# Altium integrated library TI Interface Line Transceiver.IntLib: 631 symbols (part 16 of 17)
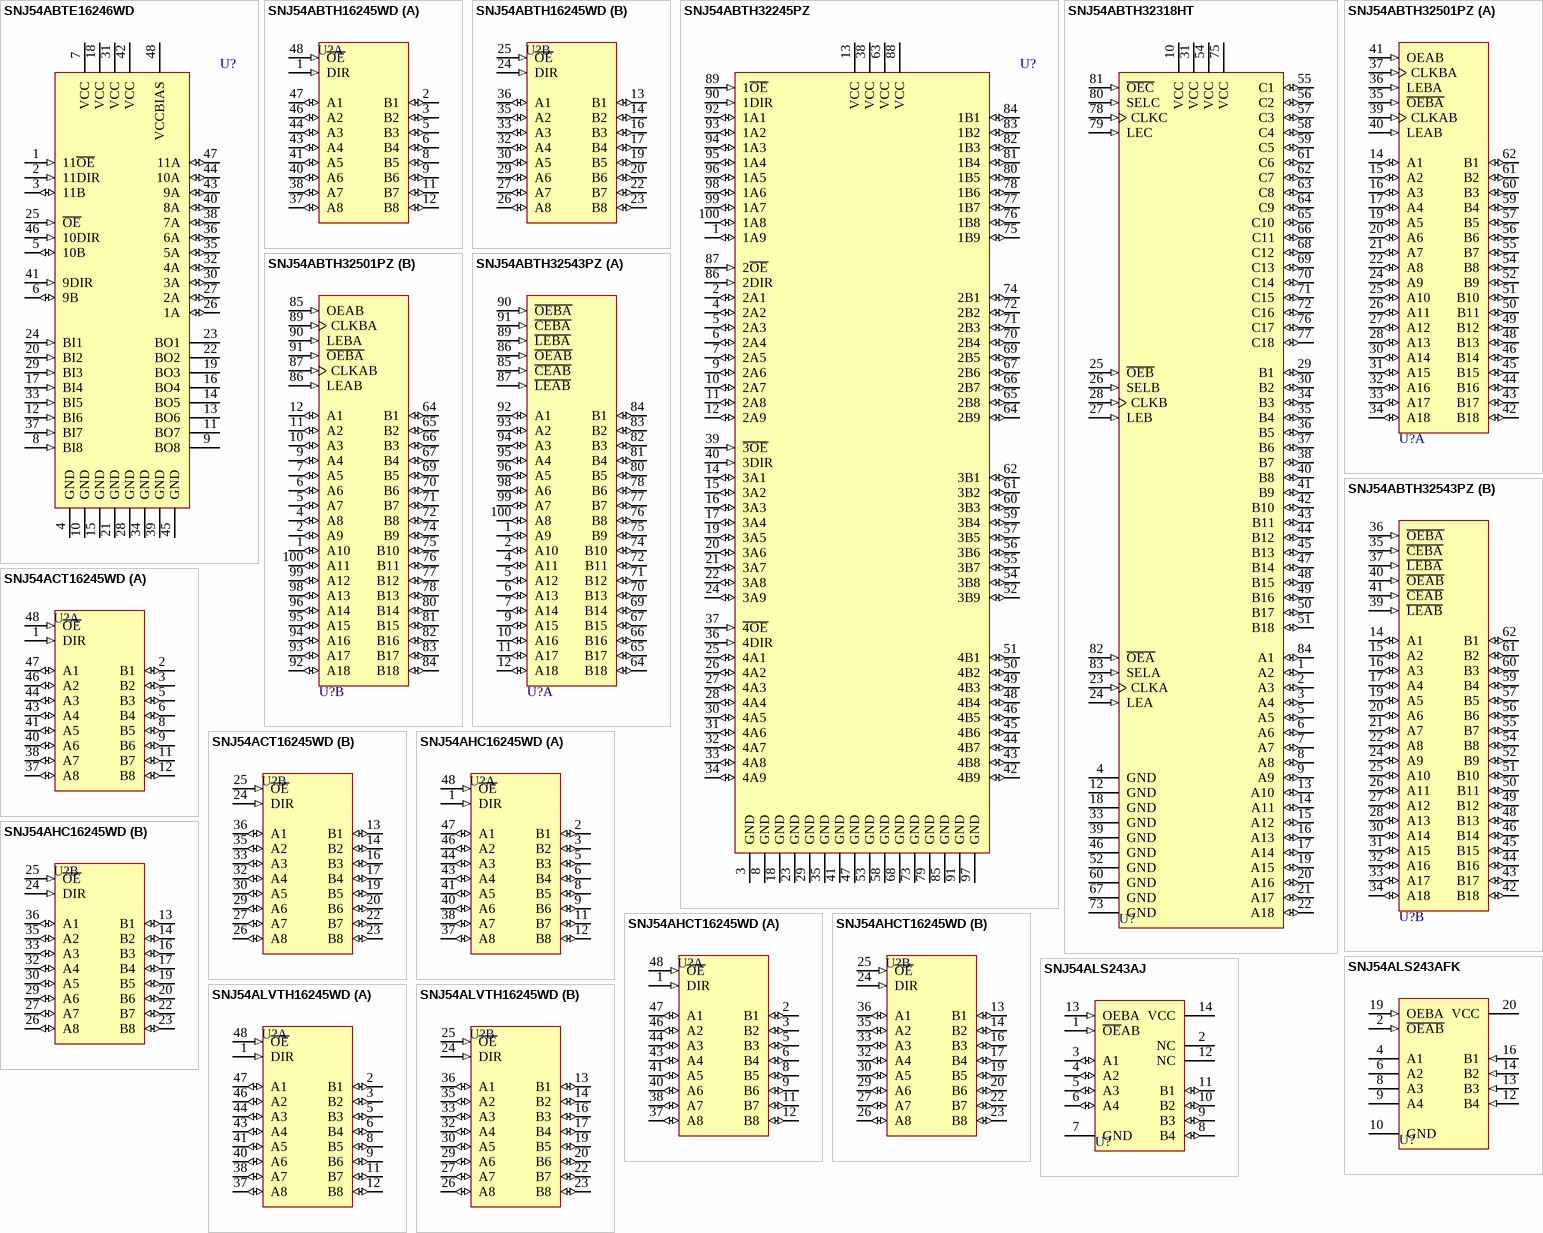
[diagram p54: symbols SNJ54ABTE16246WD to SNJ54ALVTH16245WD]

## SNJ54ABTH32318HT
designator U?
18-Bit Tri-Port Universal Bus Exchanger; Note: Pins 11,32,53,74 are not connected and not drawn; Published: 8-Jun-2000; LatestRevisionDate: 13-Apr-2006; LatestRevisionNote: IPC-7351 Footprint Added.; DatasheetVersion: May-1997; PackageVersion: Oct-1994; PackageReference: HT084; Publisher: Altium Limited; PackageDescription: 84-Pin Ceramic Quad Flat Pack 0.635 mm Pitch; ComponentLink1Description: Manufacturer Link; ComponentLink1URL: http://www.ti.com/
footprint HT084_N (CQFP, 84-Leads, Body 16.5x16.5mm; Pitch 0.635mm, Gullwing Leadform, IPC Medium Density)
footprint HT084_L (CQFP, 84-Leads, Body 16.5x16.5mm; Pitch 0.635mm, Gullwing Leadform, IPC High Density)
footprint HT084_M (CQFP, 84-Leads, Body 16.5x16.5mm; Pitch 0.635mm, Gullwing Leadform, IPC Low Density)
3D model SNJ54ABTH32318-HT084 (84-Pin Ceramic Quad Flat Pack 0.635 mm Pitch)
pins: 1 A2 (io), 2 A3 (io), 3 A4 (io), 4 GND (power), 5 A5 (io), 6 A6 (io), 7 A7 (io), 8 A8 (io), 9 A9 (io), 10 VCC (power), 12 GND (power), 13 A10 (io), 14 A11 (io), 15 A12 (io), 16 A13 (io), 17 A14 (io), 18 GND (power), 19 A15 (io), 20 A16 (io), 21 A17 (io), 22 A18 (io), 23 CLKA (in), 24 LEA (in), 25 ~{OEB} (in), 26 SELB (in), 27 LEB (in), 28 CLKB (in), 29 B1 (io), 30 B2 (io), 31 VCC (power), 33 GND (power), 34 B3 (io), 35 B4 (io), 36 B5 (io), 37 B6 (io), 38 B7 (io), 39 GND (power), 40 B8 (io), 41 B9 (io), 42 B10 (io), 43 B11 (io), 44 B12 (io), 45 B13 (io), 46 GND (power), 47 B14 (io), 48 B15 (io), 49 B16 (io), 50 B17 (io), 51 B18 (io), 52 GND (power), 54 VCC (power), 55 C1 (io), 56 C2 (io), 57 C3 (io), 58 C4 (io), 59 C5 (io), 60 GND (power), 61 C6 (io), 62 C7 (io), 63 C8 (io), 64 C9 (io), 65 C10 (io), 66 C11 (io), 67 GND (power), 68 C12 (io), 69 C13 (io), 70 C14 (io), 71 C15 (io), 72 C16 (io), 73 GND (power), 75 VCC (power), 76 C17 (io), 77 C18 (io), 78 CLKC (in), 79 LEC (in), 80 SELC (in), 81 ~{OEC} (in), 82 ~{OEA} (in), 83 SELA (in), 84 A1 (io)

## SNJ54ABTH32501PZ
designator U?
36-Bit Universal Bus Transceiver with 3-State Outputs; Published: 8-Jun-2000; LatestRevisionDate: 13-Apr-2006; LatestRevisionNote: IPC-7351 Footprint Added.; DatasheetVersion: May-1997; PackageVersion: Dec-1996; PackageReference: PZ100; Publisher: Altium Limited; PackageDescription: 100-Pin Thin Quad Flat Pack 0.5 mm Pitch; ComponentLink1Description: Manufacturer Link; ComponentLink1URL: http://www.ti.com/
footprint PZ100_N (Thin QFP, 100-Leads, Body 14x14mm, Pitch 0.5mm, IPC Medium Density)
footprint PZ100_L (Thin QFP, 100-Leads, Body 14x14mm, Pitch 0.5mm, IPC High Density)
footprint PZ100_M (Thin QFP, 100-Leads, Body 14x14mm, Pitch 0.5mm, IPC Low Density)
3D model SNJ54ABTH32501-PZ100 (100-Pin Thin Quad Flat Pack 0.5 mm Pitch)
pins on every part: 3 GND (power) hidden to GND, 8 GND (power) hidden to GND, 13 VCC (power) hidden to VCC, 18 GND (power) hidden to GND, 23 GND (power) hidden to GND, 29 GND (power) hidden to GND, 38 VCC (power) hidden to VCC, 47 GND (power) hidden to GND, 53 GND (power) hidden to GND, 58 GND (power) hidden to GND, 63 VCC (power) hidden to VCC, 68 GND (power) hidden to GND, 73 GND (power) hidden to GND, 79 GND (power) hidden to GND, 88 VCC (power) hidden to VCC, 97 GND (power) hidden to GND
part A pins: 14 A1 (io), 15 A2 (io), 16 A3 (io), 17 A4 (io), 19 A5 (io), 20 A6 (io), 21 A7 (io), 22 A8 (io), 24 A9 (io), 25 A10 (io), 26 A11 (io), 27 A12 (io), 28 A13 (io), 30 A14 (io), 31 A15 (io), 32 A16 (io), 33 A17 (io), 34 A18 (io), 35 ~{OEBA} (in), 36 LEBA (in), 37 CLKBA (in), 39 CLKAB (in), 40 LEAB (in), 41 OEAB (in), 42 B18 (io), 43 B17 (io), 44 B16 (io), 45 B15 (io), 46 B14 (io), 48 B13 (io), 49 B12 (io), 50 B11 (io), 51 B10 (io), 52 B9 (io), 54 B8 (io), 55 B7 (io), 56 B6 (io), 57 B5 (io), 59 B4 (io), 60 B3 (io), 61 B2 (io), 62 B1 (io)
part B pins: 1 A10 (io), 2 A9 (io), 4 A8 (io), 5 A7 (io), 6 A6 (io), 7 A5 (io), 9 A4 (io), 10 A3 (io), 11 A2 (io), 12 A1 (io), 64 B1 (io), 65 B2 (io), 66 B3 (io), 67 B4 (io), 69 B5 (io), 70 B6 (io), 71 B7 (io), 72 B8 (io), 74 B9 (io), 75 B10 (io), 76 B11 (io), 77 B12 (io), 78 B13 (io), 80 B14 (io), 81 B15 (io), 82 B16 (io), 83 B17 (io), 84 B18 (io), 85 OEAB (in), 86 LEAB (in), 87 CLKAB (in), 89 CLKBA (in), 90 LEBA (in), 91 ~{OEBA} (in), 92 A18 (io), 93 A17 (io), 94 A16 (io), 95 A15 (io), 96 A14 (io), 98 A13 (io), 99 A12 (io), 100 A11 (io)

## SNJ54ABTH32543PZ
designator U?
36-Bit Registered Bus Transceiver with 3-State Outputs; Published: 8-Jun-2000; LatestRevisionDate: 13-Apr-2006; LatestRevisionNote: IPC-7351 Footprint Added.; DatasheetVersion: May-1997; PackageVersion: Dec-1996; PackageReference: PZ100; Publisher: Altium Limited; PackageDescription: 100-Pin Thin Quad Flat Pack 0.5 mm Pitch; ComponentLink1Description: Manufacturer Link; ComponentLink1URL: http://www.ti.com/
footprint PZ100_N (Thin QFP, 100-Leads, Body 14x14mm, Pitch 0.5mm, IPC Medium Density)
footprint PZ100_L (Thin QFP, 100-Leads, Body 14x14mm, Pitch 0.5mm, IPC High Density)
footprint PZ100_M (Thin QFP, 100-Leads, Body 14x14mm, Pitch 0.5mm, IPC Low Density)
3D model SNJ54ABTH32543-PZ100 (100-Pin Thin Quad Flat Pack 0.5 mm Pitch)
pins on every part: 3 GND (power) hidden to GND, 8 GND (power) hidden to GND, 13 VCC (power) hidden to VCC, 18 GND (power) hidden to GND, 23 GND (power) hidden to GND, 29 GND (power) hidden to GND, 38 VCC (power) hidden to VCC, 47 GND (power) hidden to GND, 53 GND (power) hidden to GND, 58 GND (power) hidden to GND, 63 VCC (power) hidden to VCC, 68 GND (power) hidden to GND, 73 GND (power) hidden to GND, 79 GND (power) hidden to GND, 88 VCC (power) hidden to VCC, 97 GND (power) hidden to GND
part A pins: 1 A9 (io), 2 A10 (io), 4 A11 (io), 5 A12 (io), 6 A13 (io), 7 A14 (io), 9 A15 (io), 10 A16 (io), 11 A17 (io), 12 A18 (io), 64 B18 (io), 65 B17 (io), 66 B16 (io), 67 B15 (io), 69 B14 (io), 70 B13 (io), 71 B12 (io), 72 B11 (io), 74 B10 (io), 75 B9 (io), 76 B8 (io), 77 B7 (io), 78 B6 (io), 80 B5 (io), 81 B4 (io), 82 B3 (io), 83 B2 (io), 84 B1 (io), 85 ~{CEAB} (in), 86 ~{OEAB} (in), 87 ~{LEAB} (in), 89 ~{LEBA} (in), 90 ~{OEBA} (in), 91 ~{CEBA} (in), 92 A1 (io), 93 A2 (io), 94 A3 (io), 95 A4 (io), 96 A5 (io), 98 A6 (io), 99 A7 (io), 100 A8 (io)
part B pins: 14 A1 (io), 15 A2 (io), 16 A3 (io), 17 A4 (io), 19 A5 (io), 20 A6 (io), 21 A7 (io), 22 A8 (io), 24 A9 (io), 25 A10 (io), 26 A11 (io), 27 A12 (io), 28 A13 (io), 30 A14 (io), 31 A15 (io), 32 A16 (io), 33 A17 (io), 34 A18 (io), 35 ~{CEBA} (in), 36 ~{OEBA} (in), 37 ~{LEBA} (in), 39 ~{LEAB} (in), 40 ~{OEAB} (in), 41 ~{CEAB} (in), 42 B18 (io), 43 B17 (io), 44 B16 (io), 45 B15 (io), 46 B14 (io), 48 B13 (io), 49 B12 (io), 50 B11 (io), 51 B10 (io), 52 B9 (io), 54 B8 (io), 55 B7 (io), 56 B6 (io), 57 B5 (io), 59 B4 (io), 60 B3 (io), 61 B2 (io), 62 B1 (io)

## SNJ54ACT16245WD
designator U?
16-Bit Bus Transceiver with 3-State Outputs; Published: 8-Jun-2000; LatestRevisionDate: 04-Mar-2005; LatestRevisionNote: Stylized 3D Model Added.; DatasheetVersion: Apr-1996; PackageVersion: Jan-1998; PackageReference: WD048; Publisher: Altium Limited; PackageDescription: DFP; 48 Leads; Body 16.3 x 9.9 mm (LxW max); Pitch 0.635 mm; Code_JEDEC: MO-146-AA; ComponentLink1Description: Manufacturer Link; ComponentLink1URL: http://www.ti.com/
footprint WD048 (DFP; 48 Leads; Body 16.3 x 9.9 mm (LxW max); Pitch 0.635 mm)
3D model WD048 (DFP; 48 Leads; Body 16.3 x 9.9 mm (LxW max); Pitch 0.635 mm)
signal-integrity model SNJ54ACT16245WD
pins on every part: 4 GND (power) hidden to GND, 7 VCC (power) hidden to VCC, 10 GND (power) hidden to GND, 15 GND (power) hidden to GND, 18 VCC (power) hidden to VCC, 21 GND (power) hidden to GND, 28 GND (power) hidden to GND, 31 VCC (power) hidden to VCC, 34 GND (power) hidden to GND, 39 GND (power) hidden to GND, 42 VCC (power) hidden to VCC, 45 GND (power) hidden to GND
part A pins: 1 DIR (in), 2 B1 (io), 3 B2 (io), 5 B3 (io), 6 B4 (io), 8 B5 (io), 9 B6 (io), 11 B7 (io), 12 B8 (io), 37 A8 (io), 38 A7 (io), 40 A6 (io), 41 A5 (io), 43 A4 (io), 44 A3 (io), 46 A2 (io), 47 A1 (io), 48 ~{OE} (in)
part B pins: 13 B1 (io), 14 B2 (io), 16 B3 (io), 17 B4 (io), 19 B5 (io), 20 B6 (io), 22 B7 (io), 23 B8 (io), 24 DIR (in), 25 ~{OE} (in), 26 A8 (io), 27 A7 (io), 29 A6 (io), 30 A5 (io), 32 A4 (io), 33 A3 (io), 35 A2 (io), 36 A1 (io)

## SNJ54AHC16245WD
designator U?
16-Bit Bus Transceiver with 3-State Outputs; Published: 8-Jun-2000; LatestRevisionDate: 04-Mar-2005; LatestRevisionNote: Stylized 3D Model Added.; DatasheetVersion: Jun-1997; PackageVersion: Jan-1998; PackageReference: WD048; Publisher: Altium Limited; PackageDescription: DFP; 48 Leads; Body 16.3 x 9.9 mm (LxW max); Pitch 0.635 mm; Code_JEDEC: MO-146-AA; ComponentLink1Description: Manufacturer Link; ComponentLink1URL: http://www.ti.com/
footprint WD048 (DFP; 48 Leads; Body 16.3 x 9.9 mm (LxW max); Pitch 0.635 mm)
3D model WD048 (DFP; 48 Leads; Body 16.3 x 9.9 mm (LxW max); Pitch 0.635 mm)
signal-integrity model SNJ54AHC16245WD
pins on every part: 4 GND (power) hidden to GND, 7 VCC (power) hidden to VCC, 10 GND (power) hidden to GND, 15 GND (power) hidden to GND, 18 VCC (power) hidden to VCC, 21 GND (power) hidden to GND, 28 GND (power) hidden to GND, 31 VCC (power) hidden to VCC, 34 GND (power) hidden to GND, 39 GND (power) hidden to GND, 42 VCC (power) hidden to VCC, 45 GND (power) hidden to GND
part A pins: 1 DIR (in), 2 B1 (io), 3 B2 (io), 5 B3 (io), 6 B4 (io), 8 B5 (io), 9 B6 (io), 11 B7 (io), 12 B8 (io), 37 A8 (io), 38 A7 (io), 40 A6 (io), 41 A5 (io), 43 A4 (io), 44 A3 (io), 46 A2 (io), 47 A1 (io), 48 ~{OE} (in)
part B pins: 13 B1 (io), 14 B2 (io), 16 B3 (io), 17 B4 (io), 19 B5 (io), 20 B6 (io), 22 B7 (io), 23 B8 (io), 24 DIR (in), 25 ~{OE} (in), 26 A8 (io), 27 A7 (io), 29 A6 (io), 30 A5 (io), 32 A4 (io), 33 A3 (io), 35 A2 (io), 36 A1 (io)

## SNJ54AHCT16245WD
designator U?
16-Bit Bus Transceiver with 3-State Outputs; Published: 8-Jun-2000; LatestRevisionDate: 04-Mar-2005; LatestRevisionNote: Stylized 3D Model Added.; DatasheetVersion: Oct-1998; PackageVersion: Jan-1998; PackageReference: WD048; Publisher: Altium Limited; PackageDescription: DFP; 48 Leads; Body 16.3 x 9.9 mm (LxW max); Pitch 0.635 mm; Code_JEDEC: MO-146-AA; ComponentLink1Description: Manufacturer Link; ComponentLink1URL: http://www.ti.com/
footprint WD048 (DFP; 48 Leads; Body 16.3 x 9.9 mm (LxW max); Pitch 0.635 mm)
3D model WD048 (DFP; 48 Leads; Body 16.3 x 9.9 mm (LxW max); Pitch 0.635 mm)
signal-integrity model SNJ54AHCT16245WD
pins on every part: 4 GND (power) hidden to GND, 7 VCC (power) hidden to VCC, 10 GND (power) hidden to GND, 15 GND (power) hidden to GND, 18 VCC (power) hidden to VCC, 21 GND (power) hidden to GND, 28 GND (power) hidden to GND, 31 VCC (power) hidden to VCC, 34 GND (power) hidden to GND, 39 GND (power) hidden to GND, 42 VCC (power) hidden to VCC, 45 GND (power) hidden to GND
part A pins: 1 DIR (in), 2 B1 (io), 3 B2 (io), 5 B3 (io), 6 B4 (io), 8 B5 (io), 9 B6 (io), 11 B7 (io), 12 B8 (io), 37 A8 (io), 38 A7 (io), 40 A6 (io), 41 A5 (io), 43 A4 (io), 44 A3 (io), 46 A2 (io), 47 A1 (io), 48 ~{OE} (in)
part B pins: 13 B1 (io), 14 B2 (io), 16 B3 (io), 17 B4 (io), 19 B5 (io), 20 B6 (io), 22 B7 (io), 23 B8 (io), 24 DIR (in), 25 ~{OE} (in), 26 A8 (io), 27 A7 (io), 29 A6 (io), 30 A5 (io), 32 A4 (io), 33 A3 (io), 35 A2 (io), 36 A1 (io)

## SNJ54ALS243AFK
designator U?
Quadruple Bus Transceiver with 3-State Outputs; Note: Pins 1, 3, 5, 7, 11, 15, 17 and 18 are not connected; Published: 8-Jun-2000; LatestRevisionDate: 17-Jul-2002; LatestRevisionNote: Re-released for DXP Platform.; DatasheetVersion: Dec-1994; PackageVersion: 1998; PackageReference: FK020; Publisher: Altium Limited; PackageDescription: Leadless Chip Carrier; 20 Terminals; Body 8.9 x 8.9 mm; ComponentLink1Description: Manufacturer Link; ComponentLink1URL: http://www.ti.com/; ComponentLink2Description: Datasheet; ComponentLink2URL: http://www-s.ti.com/sc/ds/sn54als243a.pdf
footprint FK020 (Leadless Chip Carrier; 20 Terminals; Body 8.9 x 8.9 mm)
signal-integrity model SNJ54ALS243AFK
pins: 2 ~{OEAB} (in), 4 A1 (hiz), 6 A2 (hiz), 8 A3 (hiz), 9 A4 (hiz), 10 GND (power), 12 B4 (in), 13 B3 (in), 14 B2 (in), 16 B1 (in), 19 OEBA (in), 20 VCC (power)

## SNJ54ALS243AJ
designator U?
Quadruple Bus Transceiver with 3-State Outputs; Note: Pins 2 and 12 are not connected; Published: 8-Jun-2000; LatestRevisionDate: 04-Mar-2005; LatestRevisionNote: Stylized 3D Model Added.; DatasheetVersion: Dec-1994; PackageVersion: Jun-1999; PackageReference: J014; Publisher: Altium Limited; PackageDescription: DIP; 14 Leads; Row Spacing 7.62 mm; Pitch 2.54 mm; ComponentLink1Description: Manufacturer Link; ComponentLink1URL: http://www.ti.com/; ComponentLink2Description: Datasheet; ComponentLink2URL: http://www-s.ti.com/sc/ds/sn54als243a.pdf
footprint J014 (DIP; 14 Leads; Row Spacing 7.62 mm; Pitch 2.54 mm)
3D model J014 (DIP; 14 Leads; Row Spacing 7.62 mm; Pitch 2.54 mm)
signal-integrity model SNJ54ALS243AJ
pins: 1 ~{OE}AB (in), 2 NC, 3 A1 (io), 4 A2 (io), 5 A3 (io), 6 A4 (io), 7 GND (power), 8 B4 (io), 9 B3 (io), 10 B2 (io), 11 B1 (io), 12 NC, 13 OEBA (in), 14 VCC (power)

## SNJ54ALVTH16245WD
designator U?
2.5-V/3.3-V 16-Bit Bus Transceiver with 3-State Outputs; Published: 8-Jun-2000; LatestRevisionDate: 04-Mar-2005; LatestRevisionNote: Stylized 3D Model Added.; DatasheetVersion: Jan-1998; PackageVersion: Jan-1998; PackageReference: WD048; Publisher: Altium Limited; PackageDescription: DFP; 48 Leads; Body 16.3 x 9.9 mm (LxW max); Pitch 0.635 mm; Code_JEDEC: MO-146-AA; ComponentLink1Description: Manufacturer Link; ComponentLink1URL: http://www.ti.com/
footprint WD048 (DFP; 48 Leads; Body 16.3 x 9.9 mm (LxW max); Pitch 0.635 mm)
3D model WD048 (DFP; 48 Leads; Body 16.3 x 9.9 mm (LxW max); Pitch 0.635 mm)
pins on every part: 4 GND (power) hidden to GND, 7 VCC (power) hidden to VCC, 10 GND (power) hidden to GND, 15 GND (power) hidden to GND, 18 VCC (power) hidden to VCC, 21 GND (power) hidden to GND, 28 GND (power) hidden to GND, 31 VCC (power) hidden to VCC, 34 GND (power) hidden to GND, 39 GND (power) hidden to GND, 42 VCC (power) hidden to VCC, 45 GND (power) hidden to GND
part A pins: 1 DIR (in), 2 B1 (io), 3 B2 (io), 5 B3 (io), 6 B4 (io), 8 B5 (io), 9 B6 (io), 11 B7 (io), 12 B8 (io), 37 A8 (io), 38 A7 (io), 40 A6 (io), 41 A5 (io), 43 A4 (io), 44 A3 (io), 46 A2 (io), 47 A1 (io), 48 ~{OE} (in)
part B pins: 13 B1 (io), 14 B2 (io), 16 B3 (io), 17 B4 (io), 19 B5 (io), 20 B6 (io), 22 B7 (io), 23 B8 (io), 24 DIR (in), 25 ~{OE} (in), 26 A8 (io), 27 A7 (io), 29 A6 (io), 30 A5 (io), 32 A4 (io), 33 A3 (io), 35 A2 (io), 36 A1 (io)

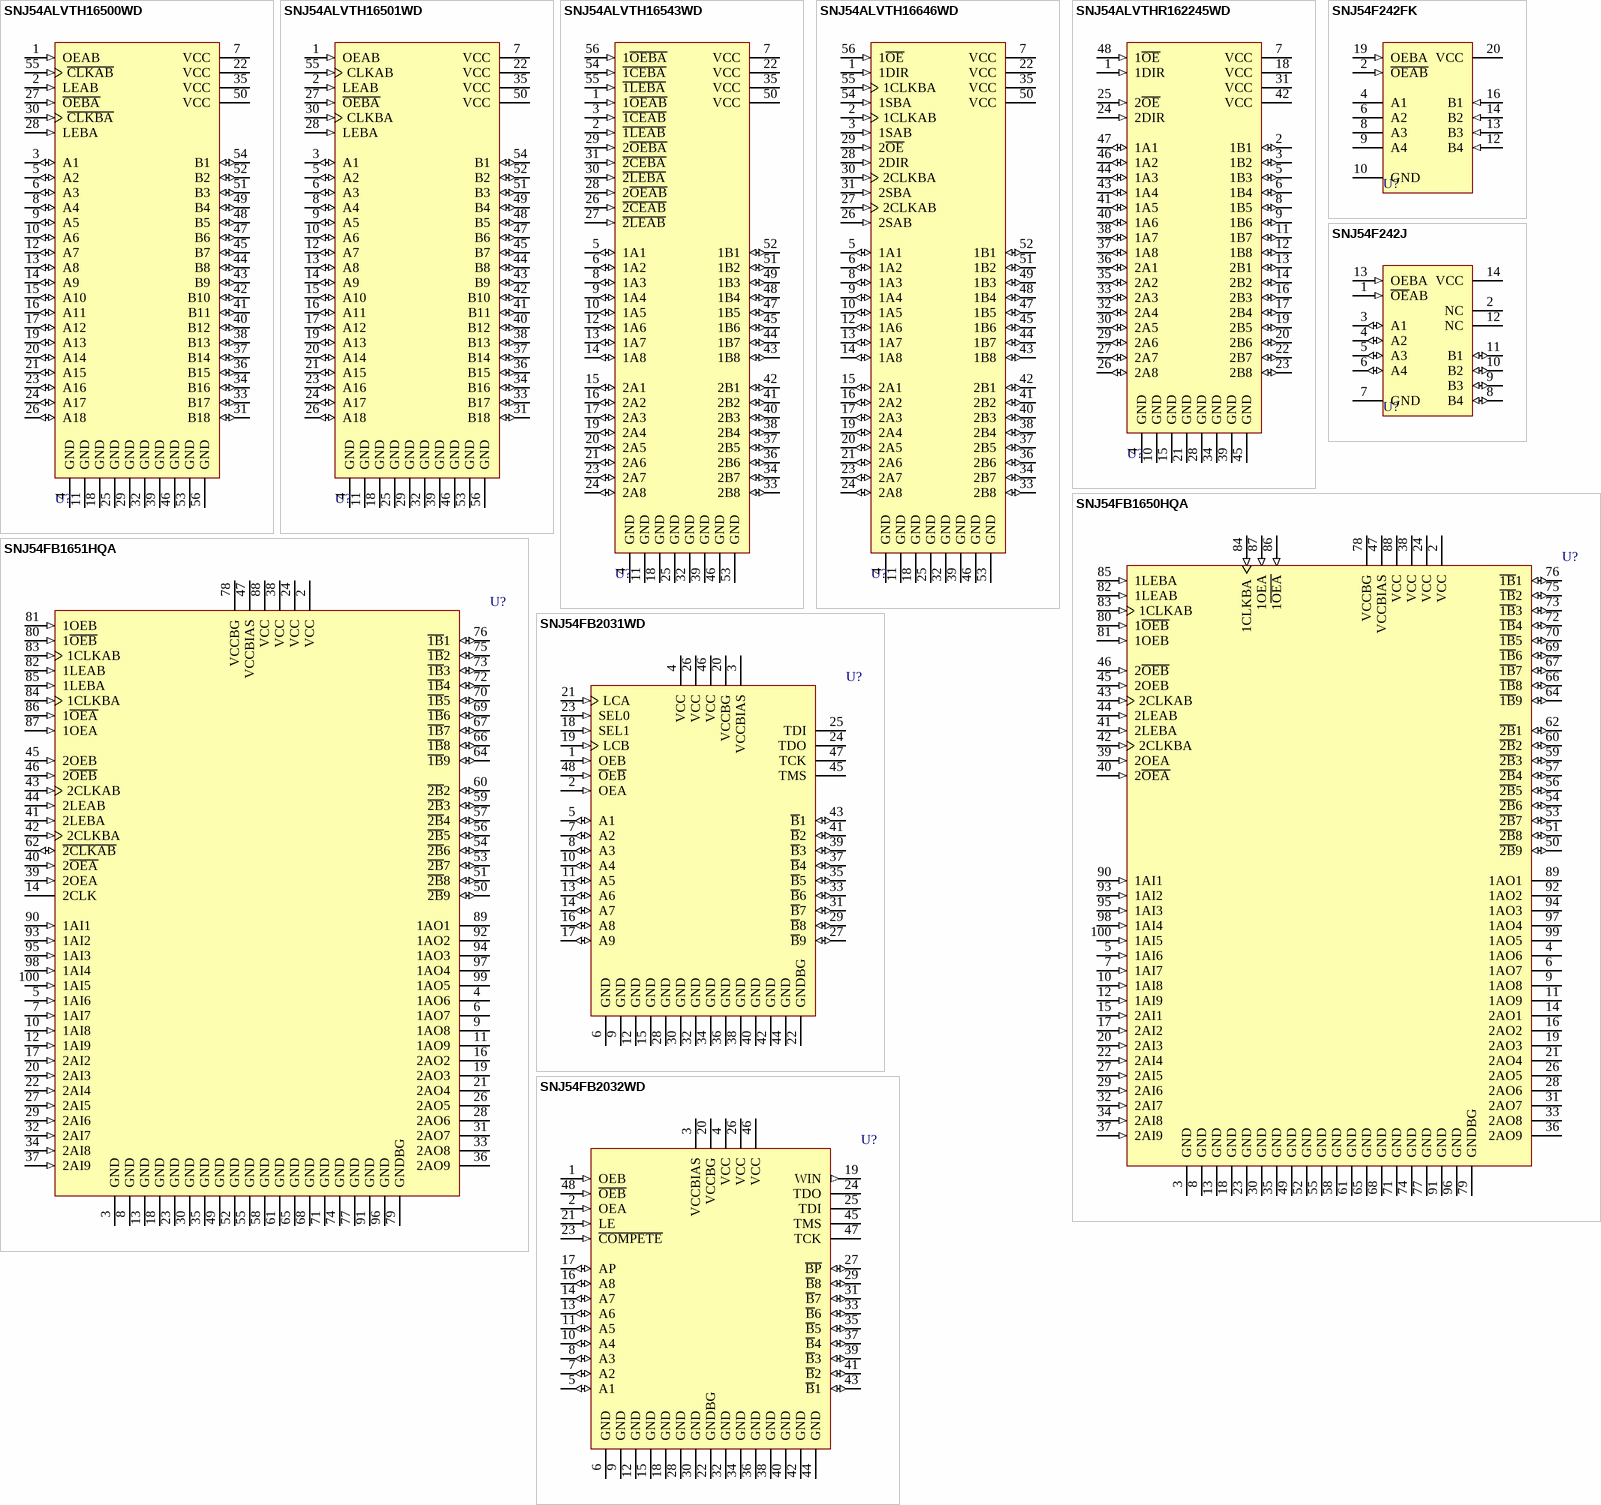
[diagram p35: symbols SNJ54ALVTH16500WD to SNJ54FB2032WD]

## SNJ54ALVTH16500WD
designator U?
2.5-V/3.3-V 18-Bit Universal Bus Transceiver with 3-State Outputs; Published: 8-Jun-2000; LatestRevisionDate: 04-Mar-2005; LatestRevisionNote: Stylized 3D Model Added.; DatasheetVersion: Jul-1996; PackageVersion: Jan-1998; PackageReference: WD056; Publisher: Altium Limited; PackageDescription: DFP; 56 Leads; Body 18.8 x 9.9 mm (LxW max); Pitch 0.635 mm; Code_JEDEC: MO-146-AB; ComponentLink1Description: Manufacturer Link; ComponentLink1URL: http://www.ti.com/
footprint WD056 (DFP; 56 Leads; Body 18.8 x 9.9 mm (LxW max); Pitch 0.635 mm)
3D model WD056 (DFP; 56 Leads; Body 18.8 x 9.9 mm (LxW max); Pitch 0.635 mm)
pins: 1 OEAB (in), 2 LEAB (in), 3 A1 (io), 4 GND (power), 5 A2 (io), 6 A3 (io), 7 VCC (power), 8 A4 (io), 9 A5 (io), 10 A6 (io), 11 GND (power), 12 A7 (io), 13 A8 (io), 14 A9 (io), 15 A10 (io), 16 A11 (io), 17 A12 (io), 18 GND (power), 19 A13 (io), 20 A14 (io), 21 A15 (io), 22 VCC (power), 23 A16 (io), 24 A17 (io), 25 GND (power), 26 A18 (io), 27 ~{OEBA} (in), 28 LEBA (in), 29 GND (power), 30 ~{CLKBA} (in), 31 B18 (io), 32 GND (power), 33 B17 (io), 34 B16 (io), 35 VCC (power), 36 B15 (io), 37 B14 (io), 38 B13 (io), 39 GND (power), 40 B12 (io), 41 B11 (io), 42 B10 (io), 43 B9 (io), 44 B8 (io), 45 B7 (io), 46 GND (power), 47 B6 (io), 48 B5 (io), 49 B4 (io), 50 VCC (power), 51 B3 (io), 52 B2 (io), 53 GND (power), 54 B1 (io), 55 ~{CLKAB} (in), 56 GND (power)

## SNJ54ALVTH16501WD
designator U?
2.5-V/3.3-V 18-Bit Universal Bus Transceiver with 3-State Outputs; Published: 8-Jun-2000; LatestRevisionDate: 04-Mar-2005; LatestRevisionNote: Stylized 3D Model Added.; DatasheetVersion: Jan-1998; PackageVersion: Jan-1998; PackageReference: WD056; Publisher: Altium Limited; PackageDescription: DFP; 56 Leads; Body 18.8 x 9.9 mm (LxW max); Pitch 0.635 mm; Code_JEDEC: MO-146-AB; ComponentLink1Description: Manufacturer Link; ComponentLink1URL: http://www.ti.com/
footprint WD056 (DFP; 56 Leads; Body 18.8 x 9.9 mm (LxW max); Pitch 0.635 mm)
3D model WD056 (DFP; 56 Leads; Body 18.8 x 9.9 mm (LxW max); Pitch 0.635 mm)
pins: 1 OEAB (in), 2 LEAB (in), 3 A1 (io), 4 GND (power), 5 A2 (io), 6 A3 (io), 7 VCC (power), 8 A4 (io), 9 A5 (io), 10 A6 (io), 11 GND (power), 12 A7 (io), 13 A8 (io), 14 A9 (io), 15 A10 (io), 16 A11 (io), 17 A12 (io), 18 GND (power), 19 A13 (io), 20 A14 (io), 21 A15 (io), 22 VCC (power), 23 A16 (io), 24 A17 (io), 25 GND (power), 26 A18 (io), 27 ~{OEBA} (in), 28 LEBA (in), 29 GND (power), 30 CLKBA (in), 31 B18 (io), 32 GND (power), 33 B17 (io), 34 B16 (io), 35 VCC (power), 36 B15 (io), 37 B14 (io), 38 B13 (io), 39 GND (power), 40 B12 (io), 41 B11 (io), 42 B10 (io), 43 B9 (io), 44 B8 (io), 45 B7 (io), 46 GND (power), 47 B6 (io), 48 B5 (io), 49 B4 (io), 50 VCC (power), 51 B3 (io), 52 B2 (io), 53 GND (power), 54 B1 (io), 55 CLKAB (in), 56 GND (power)

## SNJ54ALVTH16543WD
designator U?
2.5-V/3.3-V 16-Bit Registered Transceiver with 3-State Outputs; Published: 8-Jun-2000; LatestRevisionDate: 04-Mar-2005; LatestRevisionNote: Stylized 3D Model Added.; DatasheetVersion: Jul-1996; PackageVersion: Jan-1998; PackageReference: WD056; Publisher: Altium Limited; PackageDescription: DFP; 56 Leads; Body 18.8 x 9.9 mm (LxW max); Pitch 0.635 mm; Code_JEDEC: MO-146-AB; ComponentLink1Description: Manufacturer Link; ComponentLink1URL: http://www.ti.com/
footprint WD056 (DFP; 56 Leads; Body 18.8 x 9.9 mm (LxW max); Pitch 0.635 mm)
3D model WD056 (DFP; 56 Leads; Body 18.8 x 9.9 mm (LxW max); Pitch 0.635 mm)
pins: 1 1~{OEAB} (in), 2 ~{1LEAB} (in), 3 ~{1CEAB} (in), 4 GND (power), 5 1A1 (io), 6 1A2 (io), 7 VCC (power), 8 1A3 (io), 9 1A4 (io), 10 1A5 (io), 11 GND (power), 12 1A6 (io), 13 1A7 (io), 14 1A8 (io), 15 2A1 (io), 16 2A2 (io), 17 2A3 (io), 18 GND (power), 19 2A4 (io), 20 2A5 (io), 21 2A6 (io), 22 VCC (power), 23 2A7 (io), 24 2A8 (io), 25 GND (power), 26 ~{2CEAB} (in), 27 ~{2LEAB} (in), 28 2~{OEAB} (in), 29 2~{OEBA} (in), 30 ~{2LEBA} (in), 31 ~{2CEBA} (in), 32 GND (power), 33 2B8 (io), 34 2B7 (io), 35 VCC (power), 36 2B6 (io), 37 2B5 (io), 38 2B4 (io), 39 GND (power), 40 2B3 (io), 41 2B2 (io), 42 2B1 (io), 43 1B8 (io), 44 1B7 (io), 45 1B6 (io), 46 GND (power), 47 1B5 (io), 48 1B4 (io), 49 1B3 (io), 50 VCC (power), 51 1B2 (io), 52 1B1 (io), 53 GND (power), 54 ~{1CEBA} (in), 55 ~{1LEBA} (in), 56 1~{OEBA} (in)

## SNJ54ALVTH16646WD
designator U?
2.5-V/3.3-V 16-Bit Bus Transceiver with 3-State Outputs; Published: 8-Jun-2000; LatestRevisionDate: 04-Mar-2005; LatestRevisionNote: Stylized 3D Model Added.; DatasheetVersion: Jul-1996; PackageVersion: Jan-1998; PackageReference: WD056; Publisher: Altium Limited; PackageDescription: DFP; 56 Leads; Body 18.8 x 9.9 mm (LxW max); Pitch 0.635 mm; Code_JEDEC: MO-146-AB; ComponentLink1Description: Manufacturer Link; ComponentLink1URL: http://www.ti.com/
footprint WD056 (DFP; 56 Leads; Body 18.8 x 9.9 mm (LxW max); Pitch 0.635 mm)
3D model WD056 (DFP; 56 Leads; Body 18.8 x 9.9 mm (LxW max); Pitch 0.635 mm)
pins: 1 1DIR (in), 2 1CLKAB (in), 3 1SAB (in), 4 GND (power), 5 1A1 (io), 6 1A2 (io), 7 VCC (power), 8 1A3 (io), 9 1A4 (io), 10 1A5 (io), 11 GND (power), 12 1A6 (io), 13 1A7 (io), 14 1A8 (io), 15 2A1 (io), 16 2A2 (io), 17 2A3 (io), 18 GND (power), 19 2A4 (io), 20 2A5 (io), 21 2A6 (io), 22 VCC (power), 23 2A7 (io), 24 2A8 (io), 25 GND (power), 26 2SAB (in), 27 2CLKAB (in), 28 2DIR (in), 29 2~{OE} (in), 30 2CLKBA (in), 31 2SBA (in), 32 GND (power), 33 2B8 (io), 34 2B7 (io), 35 VCC (power), 36 2B6 (io), 37 2B5 (io), 38 2B4 (io), 39 GND (power), 40 2B3 (io), 41 2B2 (io), 42 2B1 (io), 43 1B8 (io), 44 1B7 (io), 45 1B6 (io), 46 GND (power), 47 1B5 (io), 48 1B4 (io), 49 1B3 (io), 50 VCC (power), 51 1B2 (io), 52 1B1 (io), 53 GND (power), 54 1SBA (in), 55 1CLKBA (in), 56 1~{OE} (in)

## SNJ54ALVTHR162245WD
designator U?
2.5-V/3.3-V 16-Bit Bus Transceiver with 3-State Outputs; Published: 8-Jun-2000; LatestRevisionDate: 04-Mar-2005; LatestRevisionNote: Stylized 3D Model Added.; DatasheetVersion: Jul-1996; PackageVersion: Jan-1998; PackageReference: WD048; Publisher: Altium Limited; PackageDescription: DFP; 48 Leads; Body 16.3 x 9.9 mm (LxW max); Pitch 0.635 mm; Code_JEDEC: MO-146-AA; ComponentLink1Description: Manufacturer Link; ComponentLink1URL: http://www.ti.com/
footprint WD048 (DFP; 48 Leads; Body 16.3 x 9.9 mm (LxW max); Pitch 0.635 mm)
3D model WD048 (DFP; 48 Leads; Body 16.3 x 9.9 mm (LxW max); Pitch 0.635 mm)
pins: 1 1DIR (in), 2 1B1 (io), 3 1B2 (io), 4 GND (power), 5 1B3 (io), 6 1B4 (io), 7 VCC (power), 8 1B5 (io), 9 1B6 (io), 10 GND (power), 11 1B7 (io), 12 1B8 (io), 13 2B1 (io), 14 2B2 (io), 15 GND (power), 16 2B3 (io), 17 2B4 (io), 18 VCC (power), 19 2B5 (io), 20 2B6 (io), 21 GND (power), 22 2B7 (io), 23 2B8 (io), 24 2DIR (in), 25 2~{OE} (in), 26 2A8 (io), 27 2A7 (io), 28 GND (power), 29 2A6 (io), 30 2A5 (io), 31 VCC (power), 32 2A4 (io), 33 2A3 (io), 34 GND (power), 35 2A2 (io), 36 2A1 (io), 37 1A8 (io), 38 1A7 (io), 39 GND (power), 40 1A6 (io), 41 1A5 (io), 42 VCC (power), 43 1A4 (io), 44 1A3 (io), 45 GND (power), 46 1A2 (io), 47 1A1 (io), 48 1~{OE} (in)

## SNJ54F242FK
designator U?
Quadruple Bus Transceiver with 3-State Outputs; Note: Pins 1, 3, 5, 7, 11, 15, 17 and 18 are NC.; Published: 8-Jun-2000; LatestRevisionDate: 17-Jul-2002; LatestRevisionNote: Re-released for DXP Platform.; DatasheetVersion: Oct-1993; PackageVersion: 1998; PackageReference: FK020; Publisher: Altium Limited; PackageDescription: Leadless Chip Carrier; 20 Terminals; Body 8.9 x 8.9 mm; ComponentLink1Description: Manufacturer Link; ComponentLink1URL: http://www.ti.com/
footprint FK020 (Leadless Chip Carrier; 20 Terminals; Body 8.9 x 8.9 mm)
simulation model SN74F242 (SIMCODE)
signal-integrity model SNJ54F242FK
pins: 2 ~{OEAB} (in), 4 A1 (hiz), 6 A2 (hiz), 8 A3 (hiz), 9 A4 (hiz), 10 GND (power), 12 B4 (in), 13 B3 (in), 14 B2 (in), 16 B1 (in), 19 OEBA (in), 20 VCC (power)

## SNJ54F242J
designator U?
Quadruple Bus Transceiver with 3-State Outputs; Note: Pins 2 and 12 are NC.; Published: 8-Jun-2000; LatestRevisionDate: 04-Mar-2005; LatestRevisionNote: Stylized 3D Model Added.; DatasheetVersion: Oct-1993; PackageVersion: Jun-1999; PackageReference: J014; Publisher: Altium Limited; PackageDescription: DIP; 14 Leads; Row Spacing 7.62 mm; Pitch 2.54 mm; ComponentLink1Description: Manufacturer Link; ComponentLink1URL: http://www.ti.com/
footprint J014 (DIP; 14 Leads; Row Spacing 7.62 mm; Pitch 2.54 mm)
3D model J014 (DIP; 14 Leads; Row Spacing 7.62 mm; Pitch 2.54 mm)
simulation model SN74F242 (SIMCODE)
signal-integrity model SNJ54F242J
pins: 1 ~{OE}AB (in), 2 NC, 3 A1 (io), 4 A2 (io), 5 A3 (io), 6 A4 (io), 7 GND (power), 8 B4 (io), 9 B3 (io), 10 B2 (io), 11 B1 (io), 12 NC, 13 OEBA (in), 14 VCC (power)

## SNJ54FB1650HQA
designator U?
18-Bit TTL/BTL Universal Storage Transceiver; Note: Pins 1, 48, 63 and 25 are not connected; Published: 8-Jun-2000; LatestRevisionDate: 13-Apr-2006; LatestRevisionNote: IPC-7351 Footprint Added.; DatasheetVersion: Jun-1997; PackageVersion: Oct-1994; PackageReference: HQA100C; Publisher: Altium Limited; PackageDescription: 100-Pin Ceramic Quad Flat Pack 0.635 mm Pitch; ComponentLink1Description: Manufacturer Link; ComponentLink1URL: http://www.ti.com/
footprint HQA100C_N (CQFP, 100-Leads, Body 17x17mm; Pitch 0.635mm, Gullwing Leadform, IPC Medium Density)
footprint HQA100C_L (CQFP, 100-Leads, Body 17x17mm; Pitch 0.635mm, Gullwing Leadform, IPC High Density)
footprint HQA100C_M (CQFP, 100-Leads, Body 17x17mm; Pitch 0.635mm, Gullwing Leadform, IPC Low Density)
3D model SNJ54FB1650-HQA100 (100-Pin Ceramic Quad Flat Pack 0.635 mm Pitch)
pins: 2 VCC (power), 3 GND (power), 4 1AO6 (hiz), 5 1AI6 (in), 6 1AO7 (hiz), 7 1AI7 (in), 8 GND (power), 9 1AO8 (hiz), 10 1AI8 (in), 11 1AO9 (hiz), 12 1AI9 (in), 13 GND (power), 14 2AO1 (hiz), 15 2AI1 (in), 16 2AO2 (hiz), 17 2AI2 (in), 18 GND (power), 19 2AO3 (hiz), 20 2AI3 (in), 21 2AO4 (hiz), 22 2AI4 (in), 23 GND (power), 24 VCC (power), 26 2AO5 (hiz), 27 2AI5 (in), 28 2AO6 (hiz), 29 2AI6 (in), 30 GND (power), 31 2AO7 (hiz), 32 2AI7 (in), 33 2AO8 (hiz), 34 2AI8 (in), 35 GND (power), 36 2AO9 (hiz), 37 2AI9 (in), 38 VCC (power), 39 2OEA (in), 40 2~{OEA} (in), 41 2LEBA (in), 42 2CLKBA (in), 43 2CLKAB (in), 44 2LEAB (in), 45 2OEB (in), 46 2~{OEB} (in), 47 VCCBIAS (power), 49 GND (power), 50 ~{2B}9 (io), 51 ~{2B}8 (io), 52 GND (power), 53 ~{2B}7 (io), 54 ~{2B}6 (io), 55 GND (power), 56 ~{2B}5 (io), 57 ~{2B}4 (io), 58 GND (power), 59 ~{2B}3 (io), 60 ~{2B}2 (io), 61 GND (power), 62 ~{2B}1 (io), 64 ~{1B}9 (io), 65 GND (power), 66 ~{1B}8 (io), 67 ~{1B}7 (io), 68 GND (power), 69 ~{1B}6 (io), 70 ~{1B}5 (io), 71 GND (power), 72 ~{1B}4 (io), 73 ~{1B}3 (io), 74 GND (power), 75 ~{1B}2 (io), 76 ~{1B}1 (io), 77 GND (power), 78 VCCBG (power), 79 GNDBG (power), 80 1~{OEB} (in), 81 1OEB (in), 82 1LEAB (in), 83 1CLKAB (in), 84 1CLKBA (in), 85 1LEBA (in), 86 1~{OEA} (in), 87 1OEA (in), 88 VCC (power), 89 1AO1 (hiz), 90 1AI1 (in), 91 GND (power), 92 1AO2 (hiz), 93 1AI2 (in), 94 1AO3 (hiz), 95 1AI3 (in), 96 GND (power), 97 1AO4 (hiz), 98 1AI4 (in), 99 1AO5 (hiz), 100 1AI5 (in)

## SNJ54FB1651HQA
designator U?
17-Bit TTL/BTL Universal Storage Transceiver with Buffered Clock Lines; Note: Pins 1, 15, 25, 48 and 63 are not connected; Published: 8-Jun-2000; LatestRevisionDate: 13-Apr-2006; LatestRevisionNote: IPC-7351 Footprint Added.; DatasheetVersion: Jun-1997; PackageVersion: Oct-1994; PackageReference: HQA100C; Publisher: Altium Limited; PackageDescription: 100-Pin Ceramic Quad Flat Pack 0.635 mm Pitch; ComponentLink1Description: Manufacturer Link; ComponentLink1URL: http://www.ti.com/
footprint HQA100C_N (CQFP, 100-Leads, Body 17x17mm; Pitch 0.635mm, Gullwing Leadform, IPC Medium Density)
footprint HQA100C_L (CQFP, 100-Leads, Body 17x17mm; Pitch 0.635mm, Gullwing Leadform, IPC High Density)
footprint HQA100C_M (CQFP, 100-Leads, Body 17x17mm; Pitch 0.635mm, Gullwing Leadform, IPC Low Density)
3D model SNJ54FB1651-HQA100 (100-Pin Ceramic Quad Flat Pack 0.635 mm Pitch)
pins: 2 VCC (power), 3 GND (power), 4 1AO6 (hiz), 5 1AI6 (in), 6 1AO7 (hiz), 7 1AI7 (in), 8 GND (power), 9 1AO8 (hiz), 10 1AI8 (in), 11 1AO9 (hiz), 12 1AI9 (in), 13 GND (power), 14 2CLK (hiz), 16 2AO2 (hiz), 17 2AI2 (in), 18 GND (power), 19 2AO3 (hiz), 20 2AI3 (in), 21 2AO4 (hiz), 22 2AI4 (in), 23 GND (power), 24 VCC (power), 26 2AO5 (hiz), 27 2AI5 (in), 28 2AO6 (hiz), 29 2AI6 (in), 30 GND (power), 31 2AO7 (hiz), 32 2AI7 (in), 33 2AO8 (hiz), 34 2AI8 (in), 35 GND (power), 36 2AO9 (hiz), 37 2AI9 (in), 38 VCC (power), 39 2OEA (in), 40 2~{OEA} (in), 41 2LEBA (in), 42 2CLKBA (in), 43 2CLKAB (in), 44 2LEAB (in), 45 2OEB (in), 46 2~{OEB} (in), 47 VCCBIAS (power), 49 GND (power), 50 ~{2B}9 (io), 51 ~{2B}8 (io), 52 GND (power), 53 ~{2B}7 (io), 54 ~{2B}6 (io), 55 GND (power), 56 ~{2B}5 (io), 57 ~{2B}4 (io), 58 GND (power), 59 ~{2B}3 (io), 60 ~{2B}2 (io), 61 GND (power), 62 ~{2CLKAB} (io), 64 ~{1B}9 (io), 65 GND (power), 66 ~{1B}8 (io), 67 ~{1B}7 (io), 68 GND (power), 69 ~{1B}6 (io), 70 ~{1B}5 (io), 71 GND (power), 72 ~{1B}4 (io), 73 ~{1B}3 (io), 74 GND (power), 75 ~{1B}2 (io), 76 ~{1B}1 (io), 77 GND (power), 78 VCCBG (power), 79 GNDBG (power), 80 1~{OEB} (in), 81 1OEB (in), 82 1LEAB (in), 83 1CLKAB (in), 84 1CLKBA (in), 85 1LEBA (in), 86 1~{OEA} (in), 87 1OEA (in), 88 VCC (power), 89 1AO1 (hiz), 90 1AI1 (in), 91 GND (power), 92 1AO2 (hiz), 93 1AI2 (in), 94 1AO3 (hiz), 95 1AI3 (in), 96 GND (power), 97 1AO4 (hiz), 98 1AI4 (in), 99 1AO5 (hiz), 100 1AI5 (in)

## SNJ54FB2031WD
designator U?
9-Bit TTL/BTL Address/Data Transceiver; ComponentAvailability: Obsolete; Published: 8-Jun-2000; LatestRevisionDate: 04-Mar-2005; LatestRevisionNote: Stylized 3D Model Added.; DatasheetVersion: Jun-1997; PackageVersion: Jan-1998; PackageReference: WD048; Publisher: Altium Limited; PackageDescription: DFP; 48 Leads; Body 16.3 x 9.9 mm (LxW max); Pitch 0.635 mm; Code_JEDEC: MO-146-AA; ComponentLink1Description: Manufacturer Link; ComponentLink1URL: http://www.ti.com/; ComponentLink2Description: Discontinuation Notice; ComponentLink2URL: http://focus.ti.com/pdfs/mltry/obsolete.pdf
footprint WD048 (DFP; 48 Leads; Body 16.3 x 9.9 mm (LxW max); Pitch 0.635 mm)
3D model WD048 (DFP; 48 Leads; Body 16.3 x 9.9 mm (LxW max); Pitch 0.635 mm)
pins: 1 OEB (in), 2 OEA (in), 3 VCCBIAS (power), 4 VCC (power), 5 A1 (io), 6 GND (power), 7 A2 (io), 8 A3 (io), 9 GND (power), 10 A4 (io), 11 A5 (io), 12 GND (power), 13 A6 (io), 14 A7 (io), 15 GND (power), 16 A8 (io), 17 A9 (io), 18 SEL1 (in), 19 LCB (in), 20 VCCBG (power), 21 LCA (in), 22 GNDBG (power), 23 SEL0 (in), 24 TDO, 25 TDI, 26 VCC (power), 27 ~{B}9 (io), 28 GND (power), 29 ~{B}8 (io), 30 GND (power), 31 ~{B}7 (io), 32 GND (power), 33 ~{B}6 (io), 34 GND (power), 35 ~{B}5 (io), 36 GND (power), 37 ~{B}4 (io), 38 GND (power), 39 ~{B}3 (io), 40 GND (power), 41 ~{B}2 (io), 42 GND (power), 43 ~{B}1 (io), 44 GND (power), 45 TMS, 46 VCC (power), 47 TCK, 48 ~{O}E~{B} (in)

## SNJ54FB2032WD
designator U?
9-Bit TTL/BTL Competition Transceiver; Published: 8-Jun-2000; LatestRevisionDate: 04-Mar-2005; LatestRevisionNote: Stylized 3D Model Added.; DatasheetVersion: Jun-1997; PackageVersion: Jan-1998; PackageReference: WD048; Publisher: Altium Limited; PackageDescription: DFP; 48 Leads; Body 16.3 x 9.9 mm (LxW max); Pitch 0.635 mm; Code_JEDEC: MO-146-AA; ComponentLink1Description: Manufacturer Link; ComponentLink1URL: http://www.ti.com/
footprint WD048 (DFP; 48 Leads; Body 16.3 x 9.9 mm (LxW max); Pitch 0.635 mm)
3D model WD048 (DFP; 48 Leads; Body 16.3 x 9.9 mm (LxW max); Pitch 0.635 mm)
pins: 1 OEB (in), 2 OEA (in), 3 VCCBIAS (power), 4 VCC (power), 5 A1 (io), 6 GND (power), 7 A2 (io), 8 A3 (io), 9 GND (power), 10 A4 (io), 11 A5 (io), 12 GND (power), 13 A6 (io), 14 A7 (io), 15 GND (power), 16 A8 (io), 17 AP (io), 18 GND (power), 19 WIN (out), 20 VCCBG (power), 21 LE (in), 22 GNDBG (power), 23 ~{COMPETE} (in), 24 TDO, 25 TDI, 26 VCC (power), 27 ~{BP} (io), 28 GND (power), 29 ~{B}8 (io), 30 GND (power), 31 ~{B}7 (io), 32 GND (power), 33 ~{B}6 (io), 34 GND (power), 35 ~{B}5 (io), 36 GND (power), 37 ~{B}4 (io), 38 GND (power), 39 ~{B}3 (io), 40 GND (power), 41 ~{B}2 (io), 42 GND (power), 43 ~{B}1 (io), 44 GND (power), 45 TMS, 46 VCC (power), 47 TCK, 48 ~{OEB} (in)

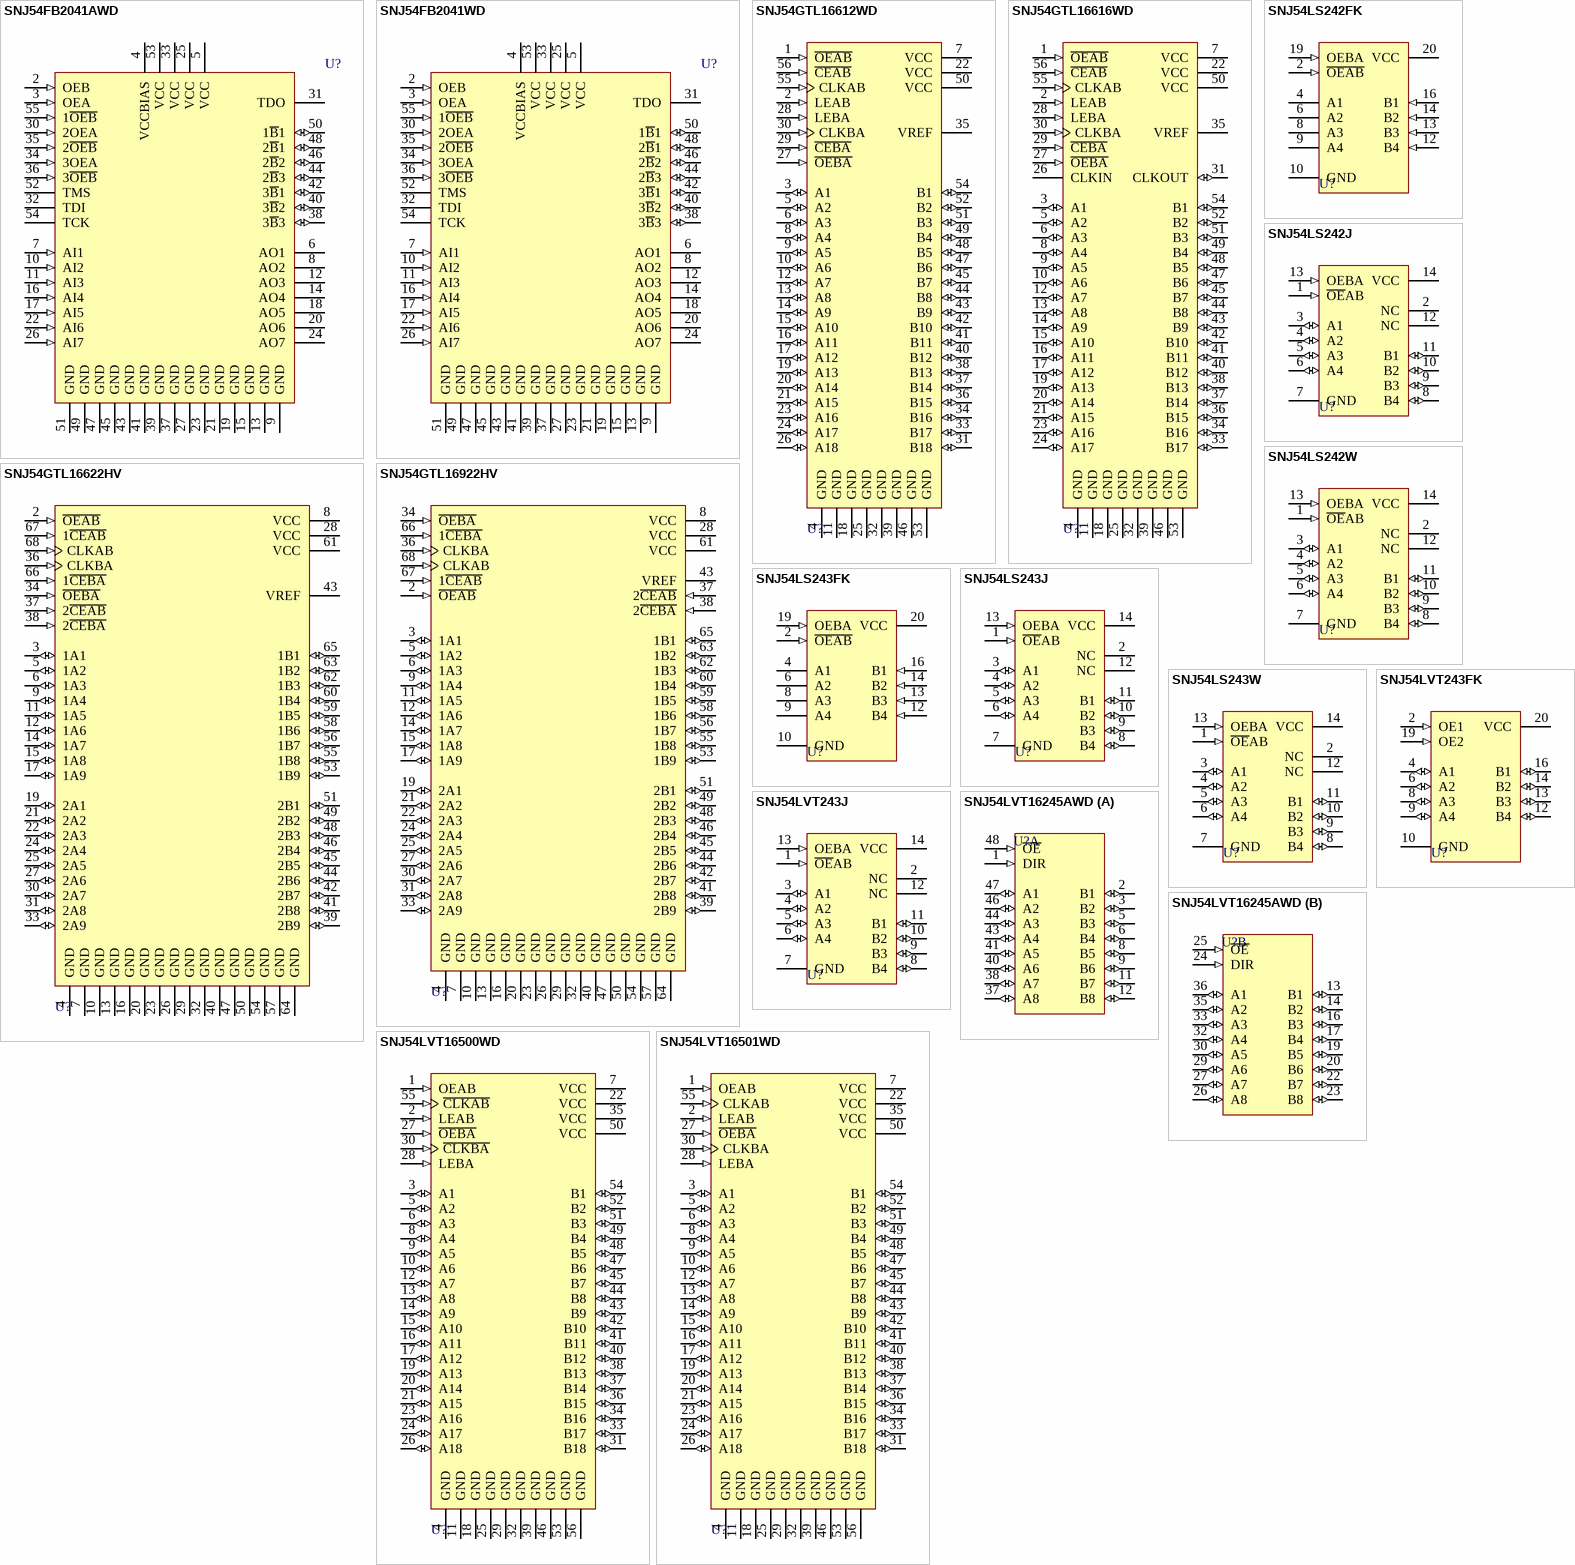
[diagram p36: symbols SNJ54FB2041AWD to SNJ54LVT16501WD]

## SNJ54FB2041AWD
designator U?
7-Bit TTL/BTL Transceiver; Note: Pins 1, 28, 29 and 56 are not connected; Published: 8-Jun-2000; LatestRevisionDate: 04-Mar-2005; LatestRevisionNote: Stylized 3D Model Added.; DatasheetVersion: Aug-1997; PackageVersion: Jan-1998; PackageReference: WD056; Publisher: Altium Limited; PackageDescription: DFP; 56 Leads; Body 18.8 x 9.9 mm (LxW max); Pitch 0.635 mm; Code_JEDEC: MO-146-AB; ComponentLink1Description: Manufacturer Link; ComponentLink1URL: http://www.ti.com/
footprint WD056 (DFP; 56 Leads; Body 18.8 x 9.9 mm (LxW max); Pitch 0.635 mm)
3D model WD056 (DFP; 56 Leads; Body 18.8 x 9.9 mm (LxW max); Pitch 0.635 mm)
pins: 2 OEB (in), 3 OEA (in), 4 VCCBIAS (power), 5 VCC (power), 6 AO1 (hiz), 7 AI1 (in), 8 AO2 (hiz), 9 GND (power), 10 AI2 (in), 11 AI3 (in), 12 AO3 (hiz), 13 GND (power), 14 AO4 (hiz), 15 GND (power), 16 AI4 (in), 17 AI5 (in), 18 AO5 (hiz), 19 GND (power), 20 AO6 (hiz), 21 GND (power), 22 AI6 (in), 23 GND (power), 24 AO7 (hiz), 25 VCC (power), 26 AI7 (in), 27 GND (power), 30 2OEA (in), 31 TDO, 32 TDI, 33 VCC (power), 34 3OEA (in), 35 2~{OEB} (in), 36 3~{OEB} (in), 37 GND (power), 38 3~{B}3 (io), 39 GND (power), 40 3~{B}2 (io), 41 GND (power), 42 3~{B}1 (io), 43 GND (power), 44 2~{B}3 (io), 45 GND (power), 46 2~{B}2 (io), 47 GND (power), 48 2~{B}1 (io), 49 GND (power), 50 1~{B}1 (io), 51 GND (power), 52 TMS, 53 VCC (power), 54 TCK, 55 1~{OEB} (in)

## SNJ54FB2041WD
designator U?
7-Bit TTL/BTL Transceiver; Note: Pins 1, 28, 29 and 56 are not connected; Published: 8-Jun-2000; LatestRevisionDate: 04-Mar-2005; LatestRevisionNote: Stylized 3D Model Added.; DatasheetVersion: Sep-1994; PackageVersion: Jan-1998; PackageReference: WD056; Publisher: Altium Limited; PackageDescription: DFP; 56 Leads; Body 18.8 x 9.9 mm (LxW max); Pitch 0.635 mm; Code_JEDEC: MO-146-AB; ComponentLink1Description: Manufacturer Link; ComponentLink1URL: http://www.ti.com/
footprint WD056 (DFP; 56 Leads; Body 18.8 x 9.9 mm (LxW max); Pitch 0.635 mm)
3D model WD056 (DFP; 56 Leads; Body 18.8 x 9.9 mm (LxW max); Pitch 0.635 mm)
pins: 2 OEB (in), 3 OEA (in), 4 VCCBIAS (power), 5 VCC (power), 6 AO1 (hiz), 7 AI1 (in), 8 AO2 (hiz), 9 GND (power), 10 AI2 (in), 11 AI3 (in), 12 AO3 (hiz), 13 GND (power), 14 AO4 (hiz), 15 GND (power), 16 AI4 (in), 17 AI5 (in), 18 AO5 (hiz), 19 GND (power), 20 AO6 (hiz), 21 GND (power), 22 AI6 (in), 23 GND (power), 24 AO7 (hiz), 25 VCC (power), 26 AI7 (in), 27 GND (power), 30 2OEA (in), 31 TDO, 32 TDI, 33 VCC (power), 34 3OEA (in), 35 2~{OEB} (in), 36 3~{OEB} (in), 37 GND (power), 38 3~{B}3 (io), 39 GND (power), 40 3~{B}2 (io), 41 GND (power), 42 3~{B}1 (io), 43 GND (power), 44 2~{B}3 (io), 45 GND (power), 46 2~{B}2 (io), 47 GND (power), 48 2~{B}1 (io), 49 GND (power), 50 1~{B}1 (io), 51 GND (power), 52 TMS, 53 VCC (power), 54 TCK, 55 1~{OEB} (in)

## SNJ54GTL16612WD
designator U?
18-Bit LVTTL-to-GTL/GTL + Universal Bus Transceiver; Published: 8-Jun-2000; LatestRevisionDate: 04-Mar-2005; LatestRevisionNote: Stylized 3D Model Added.; DatasheetVersion: Nov-1998; PackageVersion: Jan-1998; PackageReference: WD056; Publisher: Altium Limited; PackageDescription: DFP; 56 Leads; Body 18.8 x 9.9 mm (LxW max); Pitch 0.635 mm; Code_JEDEC: MO-146-AB; ComponentLink1Description: Manufacturer Link; ComponentLink1URL: http://www.ti.com/; ComponentLink2Description: Datasheet; ComponentLink2URL: http://www-s.ti.com/sc/ds/sn74gtl16612.pdf
footprint WD056 (DFP; 56 Leads; Body 18.8 x 9.9 mm (LxW max); Pitch 0.635 mm)
3D model WD056 (DFP; 56 Leads; Body 18.8 x 9.9 mm (LxW max); Pitch 0.635 mm)
signal-integrity model SNJ54GTL16612WD
pins: 1 ~{OEAB} (in), 2 LEAB (in), 3 A1 (io), 4 GND (power), 5 A2 (io), 6 A3 (io), 7 VCC (power), 8 A4 (io), 9 A5 (io), 10 A6 (io), 11 GND (power), 12 A7 (io), 13 A8 (io), 14 A9 (io), 15 A10 (io), 16 A11 (io), 17 A12 (io), 18 GND (power), 19 A13 (io), 20 A14 (io), 21 A15 (io), 22 VCC (power), 23 A16 (io), 24 A17 (io), 25 GND (power), 26 A18 (io), 27 ~{OEBA} (in), 28 LEBA (in), 29 ~{CEBA} (in), 30 CLKBA (in), 31 B18 (io), 32 GND (power), 33 B17 (io), 34 B16 (io), 35 VREF (power), 36 B15 (io), 37 B14 (io), 38 B13 (io), 39 GND (power), 40 B12 (io), 41 B11 (io), 42 B10 (io), 43 B9 (io), 44 B8 (io), 45 B7 (io), 46 GND (power), 47 B6 (io), 48 B5 (io), 49 B4 (io), 50 VCC (power), 51 B3 (io), 52 B2 (io), 53 GND (power), 54 B1 (io), 55 CLKAB (in), 56 ~{CEAB} (in)

## SNJ54GTL16616WD
designator U?
17-Bit GTL/LVT Universal Bus Transceiver with Buffered Clock Outputs; Published: 8-Jun-2000; LatestRevisionDate: 04-Mar-2005; LatestRevisionNote: Stylized 3D Model Added.; DatasheetVersion: Nov-1998; PackageVersion: Jan-1998; PackageReference: WD056; Publisher: Altium Limited; PackageDescription: DFP; 56 Leads; Body 18.8 x 9.9 mm (LxW max); Pitch 0.635 mm; Code_JEDEC: MO-146-AB; ComponentLink1Description: Manufacturer Link; ComponentLink1URL: http://www.ti.com/
footprint WD056 (DFP; 56 Leads; Body 18.8 x 9.9 mm (LxW max); Pitch 0.635 mm)
3D model WD056 (DFP; 56 Leads; Body 18.8 x 9.9 mm (LxW max); Pitch 0.635 mm)
signal-integrity model SNJ54GTL16616WD
pins: 1 ~{OEAB} (in), 2 LEAB (in), 3 A1 (io), 4 GND (power), 5 A2 (io), 6 A3 (io), 7 VCC (power), 8 A4 (io), 9 A5 (io), 10 A6 (io), 11 GND (power), 12 A7 (io), 13 A8 (io), 14 A9 (io), 15 A10 (io), 16 A11 (io), 17 A12 (io), 18 GND (power), 19 A13 (io), 20 A14 (io), 21 A15 (io), 22 VCC (power), 23 A16 (io), 24 A17 (io), 25 GND (power), 26 CLKIN (hiz), 27 ~{OEBA} (in), 28 LEBA (in), 29 ~{CEBA} (in), 30 CLKBA (in), 31 CLKOUT (io), 32 GND (power), 33 B17 (io), 34 B16 (io), 35 VREF (power), 36 B15 (io), 37 B14 (io), 38 B13 (io), 39 GND (power), 40 B12 (io), 41 B11 (io), 42 B10 (io), 43 B9 (io), 44 B8 (io), 45 B7 (io), 46 GND (power), 47 B6 (io), 48 B5 (io), 49 B4 (io), 50 VCC (power), 51 B3 (io), 52 B2 (io), 53 GND (power), 54 B1 (io), 55 CLKAB (in), 56 ~{CEAB} (in)

## SNJ54GTL16622HV
designator U?
18-Bit LVTTL-to-GTL/GTL + Transceiver; Note: Pins 1, 18, 35 and 52 are not connected; Published: 8-Jun-2000; LatestRevisionDate: 13-Apr-2006; LatestRevisionNote: IPC-7351 Footprint Added.; DatasheetVersion: Oct-1996; PackageVersion: Oct-1996; PackageReference: HV068; Publisher: Altium Limited; PackageDescription: 68-Pin Ceramic Quad Flat Pack 0.635 mm Pitch; ComponentLink1Description: Manufacturer Link; ComponentLink1URL: http://www.ti.com/
footprint HV068_N (CQFP, 68-Leads, Body 12.5x12.5mm; Pitch 0.635mm, Gullwing Leadform, IPC Medium Density)
footprint HV068_L (CQFP, 68-Leads, Body 12.5x12.5mm; Pitch 0.635mm, Gullwing Leadform, IPC High Density)
footprint HV068_M (CQFP, 68-Leads, Body 12.5x12.5mm; Pitch 0.635mm, Gullwing Leadform, IPC Low Density)
3D model SNJ54GTL16622-HV068 (68-Pin Ceramic Quad Flat Pack 0.635 mm Pitch)
signal-integrity model SNJ54GTL16622HV
pins: 2 ~{OEAB} (in), 3 1A1 (io), 4 GND (power), 5 1A2 (io), 6 1A3 (io), 7 GND (power), 8 VCC (power), 9 1A4 (io), 10 GND (power), 11 1A5 (io), 12 1A6 (io), 13 GND (power), 14 1A7 (io), 15 1A8 (io), 16 GND (power), 17 1A9 (io), 19 2A1 (io), 20 GND (power), 21 2A2 (io), 22 2A3 (io), 23 GND (power), 24 2A4 (io), 25 2A5 (io), 26 GND (power), 27 2A6 (io), 28 VCC (power), 29 GND (power), 30 2A7 (io), 31 2A8 (io), 32 GND (power), 33 2A9 (io), 34 ~{OEBA} (in), 36 CLKBA (in), 37 2~{CEAB} (in), 38 2~{CEBA} (in), 39 2B9 (io), 40 GND (power), 41 2B8 (io), 42 2B7 (io), 43 VREF (power), 44 2B6 (io), 45 2B5 (io), 46 2B4 (io), 47 GND (power), 48 2B3 (io), 49 2B2 (io), 50 GND (power), 51 2B1 (io), 53 1B9 (io), 54 GND (power), 55 1B8 (io), 56 1B7 (io), 57 GND (power), 58 1B6 (io), 59 1B5 (io), 60 1B4 (io), 61 VCC (power), 62 1B3 (io), 63 1B2 (io), 64 GND (power), 65 1B1 (io), 66 1~{CEBA} (in), 67 1~{CEAB} (in), 68 CLKAB (in)

## SNJ54GTL16922HV
designator U?
18-Bit LVTTL-to-GTL/GTL+ Bus Transceiver; Published: 8-Jun-2000; LatestRevisionDate: 13-Apr-2006; LatestRevisionNote: IPC-7351 Footprint Added.; DatasheetVersion: Nov-1996; PackageVersion: Oct-1996; PackageReference: HV068C; Publisher: Altium Limited; PackageDescription: 68-Pin Ceramic Quad Flat Pack 0.635 mm Pitch; ComponentLink1Description: Manufacturer Link; ComponentLink1URL: http://www.ti.com/
footprint HV068C_N (CQFP, 68-Leads, Body 12.5x12.5mm; Pitch 0.635mm, Gullwing Leadform, IPC Medium Density)
footprint HV068C_L (CQFP, 68-Leads, Body 12.5x12.5mm; Pitch 0.635mm, Gullwing Leadform, IPC High Density)
footprint HV068C_M (CQFP, 68-Leads, Body 12.5x12.5mm; Pitch 0.635mm, Gullwing Leadform, IPC Low Density)
3D model SNJ54GTL16922-HV068 (68-Pin Ceramic Quad Flat Pack 0.635 mm Pitch)
signal-integrity model SNJ54GTL16922HV
pins: 2 ~{OEAB} (in), 3 1A1 (io), 4 GND (power), 5 1A2 (io), 6 1A3 (io), 7 GND (power), 8 VCC (power), 9 1A4 (io), 10 GND (power), 11 1A5 (io), 12 1A6 (io), 13 GND (power), 14 1A7 (io), 15 1A8 (io), 16 GND (power), 17 1A9 (io), 19 2A1 (io), 20 GND (power), 21 2A2 (io), 22 2A3 (io), 23 GND (power), 24 2A4 (io), 25 2A5 (io), 26 GND (power), 27 2A6 (io), 28 VCC (power), 29 GND (power), 30 2A7 (io), 31 2A8 (io), 32 GND (power), 33 2A9 (io), 34 ~{OEBA} (in), 36 CLKBA (in), 37 2~{CEAB} (in), 38 2~{CEBA} (in), 39 2B9 (io), 40 GND (power), 41 2B8 (io), 42 2B7 (io), 43 VREF (power), 44 2B6 (io), 45 2B5 (io), 46 2B4 (io), 47 GND (power), 48 2B3 (io), 49 2B2 (io), 50 GND (power), 51 2B1 (io), 53 1B9 (io), 54 GND (power), 55 1B8 (io), 56 1B7 (io), 57 GND (power), 58 1B6 (io), 59 1B5 (io), 60 1B4 (io), 61 VCC (power), 62 1B3 (io), 63 1B2 (io), 64 GND (power), 65 1B1 (io), 66 1~{CEBA} (in), 67 1~{CEAB} (in), 68 CLKAB (in)

## SNJ54LS242FK
designator U?
Quadruple Bus Transceiver; Note: Pins 1, 3, 5, 7, 11, 15, 17 and 18 are NC.; Published: 8-Jun-2000; LatestRevisionDate: 17-Jul-2002; LatestRevisionNote: Re-released for DXP Platform.; DatasheetVersion: Mar-1988; PackageVersion: 1998; PackageReference: FK020; Publisher: Altium Limited; PackageDescription: Leadless Chip Carrier; 20 Terminals; Body 8.9 x 8.9 mm; ComponentLink1Description: Manufacturer Link; ComponentLink1URL: http://www.ti.com/
footprint FK020 (Leadless Chip Carrier; 20 Terminals; Body 8.9 x 8.9 mm)
simulation model SN74LS242 (SIMCODE)
signal-integrity model SNJ54LS242FK
pins: 2 ~{OEAB} (in), 4 A1 (hiz), 6 A2 (hiz), 8 A3 (hiz), 9 A4 (hiz), 10 GND (power), 12 B4 (in), 13 B3 (in), 14 B2 (in), 16 B1 (in), 19 OEBA (in), 20 VCC (power)

## SNJ54LS242J
designator U?
Quadruple Bus Transceiver; Note: Pins 2 and 12 are NC.; Published: 8-Jun-2000; LatestRevisionDate: 04-Mar-2005; LatestRevisionNote: Stylized 3D Model Added.; DatasheetVersion: Mar-1988; PackageVersion: Jun-1999; PackageReference: J014; Publisher: Altium Limited; PackageDescription: DIP; 14 Leads; Row Spacing 7.62 mm; Pitch 2.54 mm; ComponentLink1Description: Manufacturer Link; ComponentLink1URL: http://www.ti.com/
footprint J014 (DIP; 14 Leads; Row Spacing 7.62 mm; Pitch 2.54 mm)
3D model J014 (DIP; 14 Leads; Row Spacing 7.62 mm; Pitch 2.54 mm)
simulation model SN74LS242 (SIMCODE)
signal-integrity model SNJ54LS242J
pins: 1 ~{OE}AB (in), 2 NC, 3 A1 (io), 4 A2 (io), 5 A3 (io), 6 A4 (io), 7 GND (power), 8 B4 (io), 9 B3 (io), 10 B2 (io), 11 B1 (io), 12 NC, 13 OEBA (in), 14 VCC (power)

## SNJ54LS242W
designator U?
Quadruple Bus Transceiver; Note: Pins 2 and 12 are NC.; Published: 8-Jun-2000; LatestRevisionDate: 04-Mar-2005; LatestRevisionNote: Stylized 3D Model Added.; DatasheetVersion: Mar-1988; PackageVersion: Jan-1995; PackageReference: W014; Publisher: Altium Limited; PackageDescription: DFP; 14 Leads; Body 9.9 x 6.6 mm (LxW max); Pitch 1.27 mm; Code_JEDEC: MO-092-AB; ComponentLink1Description: Manufacturer Link; ComponentLink1URL: http://www.ti.com/
footprint W014 (DFP; 14 Leads; Body 9.9 x 6.6 mm (LxW max); Pitch 1.27 mm)
3D model W014 (DFP; 14 Leads; Body 9.9 x 6.6 mm (LxW max); Pitch 1.27 mm)
simulation model SN74LS242 (SIMCODE)
signal-integrity model SNJ54LS242W
pins: 1 ~{OE}AB (in), 2 NC, 3 A1 (io), 4 A2 (io), 5 A3 (io), 6 A4 (io), 7 GND (power), 8 B4 (io), 9 B3 (io), 10 B2 (io), 11 B1 (io), 12 NC, 13 OEBA (in), 14 VCC (power)

## SNJ54LS243FK
designator U?
Quadruple Bus Transceiver; Note: Pins 1, 3, 5, 7, 11, 15, 17 and 18 are NC.; ComponentAvailability: Obsolete; Published: 8-Jun-2000; LatestRevisionDate: 17-Jul-2002; LatestRevisionNote: Re-released for DXP Platform.; DatasheetVersion: Mar-1988; PackageVersion: 1998; PackageReference: FK020; Publisher: Altium Limited; PackageDescription: Leadless Chip Carrier; 20 Terminals; Body 8.9 x 8.9 mm; ComponentLink1Description: Manufacturer Link; ComponentLink1URL: http://www.ti.com/; ComponentLink2Description: Datasheet; ComponentLink2URL: http://www-s.ti.com/sc/ds/sn74ls242.pdf
footprint FK020 (Leadless Chip Carrier; 20 Terminals; Body 8.9 x 8.9 mm)
simulation model SN74LS243 (SIMCODE)
signal-integrity model SNJ54LS243FK
pins: 2 ~{OEAB} (in), 4 A1 (hiz), 6 A2 (hiz), 8 A3 (hiz), 9 A4 (hiz), 10 GND (power), 12 B4 (in), 13 B3 (in), 14 B2 (in), 16 B1 (in), 19 OEBA (in), 20 VCC (power)

## SNJ54LS243J
designator U?
Quadruple Bus Transceiver; Note: Pins 2 and 12 are NC.; Published: 8-Jun-2000; LatestRevisionDate: 04-Mar-2005; LatestRevisionNote: Stylized 3D Model Added.; DatasheetVersion: Mar-1988; PackageVersion: Jun-1999; PackageReference: J014; Publisher: Altium Limited; PackageDescription: DIP; 14 Leads; Row Spacing 7.62 mm; Pitch 2.54 mm; ComponentLink1Description: Manufacturer Link; ComponentLink1URL: http://www.ti.com/; ComponentLink2Description: Datasheet; ComponentLink2URL: http://www-s.ti.com/sc/ds/sn74ls242.pdf
footprint J014 (DIP; 14 Leads; Row Spacing 7.62 mm; Pitch 2.54 mm)
3D model J014 (DIP; 14 Leads; Row Spacing 7.62 mm; Pitch 2.54 mm)
simulation model SN74LS243 (SIMCODE)
signal-integrity model SNJ54LS243J
pins: 1 ~{OE}AB (in), 2 NC, 3 A1 (io), 4 A2 (io), 5 A3 (io), 6 A4 (io), 7 GND (power), 8 B4 (io), 9 B3 (io), 10 B2 (io), 11 B1 (io), 12 NC, 13 OEBA (in), 14 VCC (power)

## SNJ54LS243W
designator U?
Quadruple Bus Transceiver; Note: Pins 2 and 12 are NC.; Published: 8-Jun-2000; LatestRevisionDate: 04-Mar-2005; LatestRevisionNote: Stylized 3D Model Added.; DatasheetVersion: Mar-1988; PackageVersion: Jan-1995; PackageReference: W014; Publisher: Altium Limited; PackageDescription: DFP; 14 Leads; Body 9.9 x 6.6 mm (LxW max); Pitch 1.27 mm; Code_JEDEC: MO-092-AB; ComponentLink1Description: Manufacturer Link; ComponentLink1URL: http://www.ti.com/; ComponentLink2Description: Datasheet; ComponentLink2URL: http://www-s.ti.com/sc/ds/sn74ls242.pdf
footprint W014 (DFP; 14 Leads; Body 9.9 x 6.6 mm (LxW max); Pitch 1.27 mm)
3D model W014 (DFP; 14 Leads; Body 9.9 x 6.6 mm (LxW max); Pitch 1.27 mm)
simulation model SN74LS243 (SIMCODE)
signal-integrity model SNJ54LS243W
pins: 1 ~{OE}AB (in), 2 NC, 3 A1 (io), 4 A2 (io), 5 A3 (io), 6 A4 (io), 7 GND (power), 8 B4 (io), 9 B3 (io), 10 B2 (io), 11 B1 (io), 12 NC, 13 OEBA (in), 14 VCC (power)

## SNJ54LVT243FK
designator U?
3.3-V ABT Quadruple Bus Transceiver with 3-State Outputs; Note: Pins 1, 3, 5, 7, 11, 15, 17 and 18 are not connected; Published: 8-Jun-2000; LatestRevisionDate: 17-Jul-2002; LatestRevisionNote: Re-released for DXP Platform.; DatasheetVersion: Mar-1994; PackageVersion: 1998; PackageReference: FK020C; Publisher: Altium Limited; PackageDescription: Leadless Chip Carrier; 20 Terminals; Body 8.9 x 8.9 mm; ComponentLink1Description: Manufacturer Link; ComponentLink1URL: http://www.ti.com/
footprint FK020C (Leadless Chip Carrier; 20 Terminals; Body 8.9 x 8.9 mm)
signal-integrity model SNJ54LVT243FK
pins: 2 OE1 (in), 4 A1 (io), 6 A2 (io), 8 A3 (io), 9 A4 (io), 10 GND (power), 12 B4 (io), 13 B3 (io), 14 B2 (io), 16 B1 (io), 19 OE2 (in), 20 VCC (power)

## SNJ54LVT243J
designator U?
3.3-V ABT Quadruple Bus Transceiver with 3-State Outputs; Note: Pins 2 and 12 are not connected; Published: 8-Jun-2000; LatestRevisionDate: 04-Mar-2005; LatestRevisionNote: Stylized 3D Model Added.; DatasheetVersion: Mar-1994; PackageVersion: Jun-1999; PackageReference: J014C; Publisher: Altium Limited; PackageDescription: DIP; 14 Leads; Row Spacing 7.62 mm; Pitch 2.54 mm; ComponentLink1Description: Manufacturer Link; ComponentLink1URL: http://www.ti.com/
footprint J014C (DIP; 14 Leads; Row Spacing 7.62 mm; Pitch 2.54 mm)
3D model J014 (DIP; 14 Leads; Row Spacing 7.62 mm; Pitch 2.54 mm)
signal-integrity model SNJ54LVT243J
pins: 1 ~{OE}AB (in), 2 NC, 3 A1 (io), 4 A2 (io), 5 A3 (io), 6 A4 (io), 7 GND (power), 8 B4 (io), 9 B3 (io), 10 B2 (io), 11 B1 (io), 12 NC, 13 OEBA (in), 14 VCC (power)

## SNJ54LVT16245AWD
designator U?
3.3-V ABT 16-Bit Bus Transceiver with 3-State Outputs; Published: 8-Jun-2000; LatestRevisionDate: 04-Mar-2005; LatestRevisionNote: Stylized 3D Model Added.; DatasheetVersion: Jan-1996; PackageVersion: Jan-1998; PackageReference: WD048; Publisher: Altium Limited; PackageDescription: DFP; 48 Leads; Body 16.3 x 9.9 mm (LxW max); Pitch 0.635 mm; Code_JEDEC: MO-146-AA; ComponentLink1Description: Manufacturer Link; ComponentLink1URL: http://www.ti.com/
footprint WD048 (DFP; 48 Leads; Body 16.3 x 9.9 mm (LxW max); Pitch 0.635 mm)
3D model WD048 (DFP; 48 Leads; Body 16.3 x 9.9 mm (LxW max); Pitch 0.635 mm)
signal-integrity model SNJ54LVT16245AWD
pins on every part: 4 GND (power) hidden to GND, 7 VCC (power) hidden to VCC, 10 GND (power) hidden to GND, 15 GND (power) hidden to GND, 18 VCC (power) hidden to VCC, 21 GND (power) hidden to GND, 28 GND (power) hidden to GND, 31 VCC (power) hidden to VCC, 34 GND (power) hidden to GND, 39 GND (power) hidden to GND, 42 VCC (power) hidden to VCC, 45 GND (power) hidden to GND
part A pins: 1 DIR (in), 2 B1 (io), 3 B2 (io), 5 B3 (io), 6 B4 (io), 8 B5 (io), 9 B6 (io), 11 B7 (io), 12 B8 (io), 37 A8 (io), 38 A7 (io), 40 A6 (io), 41 A5 (io), 43 A4 (io), 44 A3 (io), 46 A2 (io), 47 A1 (io), 48 ~{OE} (in)
part B pins: 13 B1 (io), 14 B2 (io), 16 B3 (io), 17 B4 (io), 19 B5 (io), 20 B6 (io), 22 B7 (io), 23 B8 (io), 24 DIR (in), 25 ~{OE} (in), 26 A8 (io), 27 A7 (io), 29 A6 (io), 30 A5 (io), 32 A4 (io), 33 A3 (io), 35 A2 (io), 36 A1 (io)